# Altium footprint library PI34xx-00.PcbLib: 1 footprints
Each footprint in its own frame and in the unit in brackets; x right, y up, seen from the top. Pads: shape width x height; smd on the part's side, far side on the other; paste and mask are expansions set on the pad; w line width, h text height; cw(c..) or ccw(c..) is an arc to the next point about the centre after c.
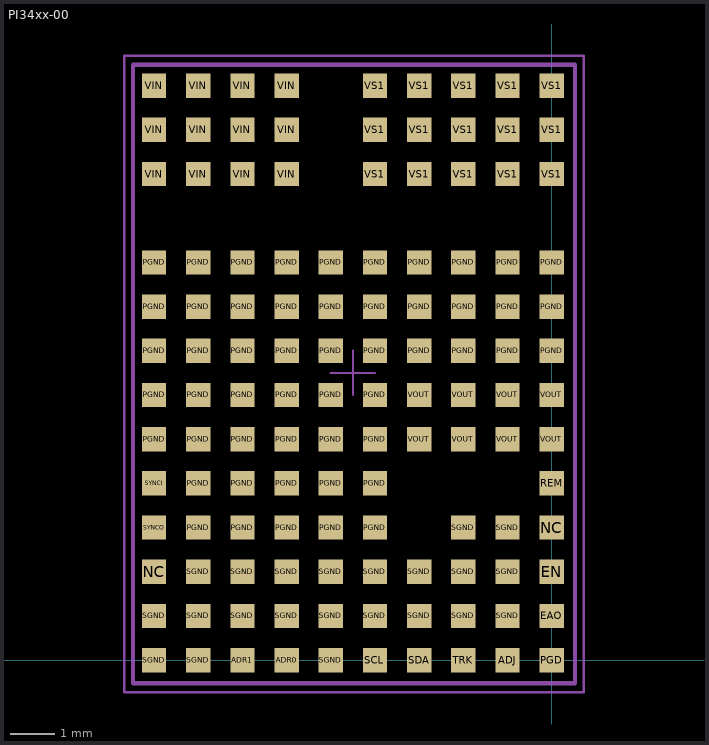
[diagram p0: the footprint, top view; thin cyan lines are the x and y axes]

## PI34xx-00 [mm]
pads (123):
  rect 0.55x0.55 smd: ADJ(-1,0) ADR0(-6,0) ADR1(-7,0) EAO(0,1) EN(0,2) NC(-9,2) NC(0,3) PGD(0,0) PGND(-9,5) PGND(-9,6) PGND(-9,7) PGND(-9,8) PGND(-9,9) PGND(-8,3) PGND(-8,4) PGND(-8,5) PGND(-8,6) PGND(-8,7) PGND(-8,8) PGND(-8,9) PGND(-7,3) PGND(-7,4) PGND(-7,5) PGND(-7,6) PGND(-7,7) PGND(-7,8) PGND(-7,9) PGND(-6,3) PGND(-6,4) PGND(-6,5) PGND(-6,6) PGND(-6,7) PGND(-6,8) PGND(-6,9) PGND(-5,3) PGND(-5,4) PGND(-5,5) PGND(-5,6) PGND(-5,7) PGND(-5,8) PGND(-5,9) PGND(-4,3) PGND(-4,4) PGND(-4,5) PGND(-4,6) PGND(-4,7) PGND(-4,8) PGND(-4,9) PGND(-3,7) PGND(-3,8) PGND(-3,9) PGND(-2,7) PGND(-2,8) PGND(-2,9) PGND(-1,7) PGND(-1,8) PGND(-1,9) PGND(0,7) PGND(0,8) PGND(0,9) REM(0,4) SCL(-4,0) SDA(-3,0) SGND(-9,0) SGND(-9,1) SGND(-8,0) SGND(-8,1) SGND(-8,2) SGND(-7,1) SGND(-7,2) SGND(-6,1) SGND(-6,2) SGND(-5,0) SGND(-5,1) SGND(-5,2) SGND(-4,1) SGND(-4,2) SGND(-3,1) SGND(-3,2) SGND(-2,1) SGND(-2,2) SGND(-2,3) SGND(-1,1) SGND(-1,2) SGND(-1,3) SYNCI(-9,4) SYNCO(-9,3) TRK(-2,0) VIN(-9,11) VIN(-9,12) VIN(-9,13) VIN(-8,11) VIN(-8,12) VIN(-8,13) VIN(-7,11) VIN(-7,12) VIN(-7,13) VIN(-6,11) VIN(-6,12) VIN(-6,13) VOUT(-3,5) VOUT(-3,6) VOUT(-2,5) VOUT(-2,6) VOUT(-1,5) VOUT(-1,6) VOUT(0,5) VOUT(0,6) VS1(-4,11) VS1(-4,12) VS1(-4,13) VS1(-3,11) VS1(-3,12) VS1(-3,13) VS1(-2,11) VS1(-2,12) VS1(-2,13) VS1(-1,11) VS1(-1,12) VS1(-1,13) VS1(0,11) VS1(0,12) VS1(0,13)
Mechanical 13:
  lines w0.1: -9.475,-0.525 0.525,-0.525 0.525,13.475 -9.475,13.475 -9.475,-0.525
Mechanical 15:
  lines w0.05: -5,6.5 -4,6.5 ; -4.5,6 -4.5,7 ; -9.675,-0.725 -9.675,13.675 0.725,13.675 0.725,-0.725 -9.675,-0.725
3D body: height 2.56, standoff 0, extent -9.474,-0.524 0.524,13.474